# Altium schematic symbol library Resistor.SchLib: 37 symbols
Pins are listed as number, name and electrical type; pins without a type are passive.

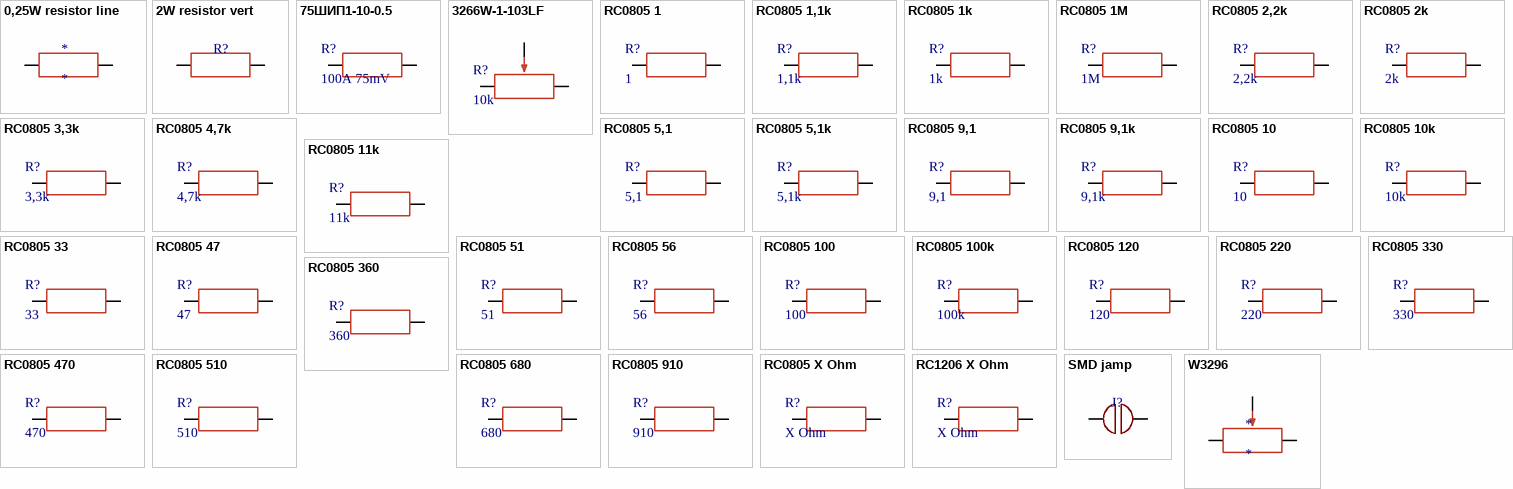
[diagram p0: symbols 0,25W resistor line to W3296]

## 0,25W resistor line
designator *
footprint 0,25 resistor line
pins: 1, 2

## 2W resistor vert
designator R?
footprint 2W resistor vert
pins: 1, 2

## 75ШИП1-10-0.5
designator R?, comment 100A 75mV
Value: 100A 75mV
footprint SHUNT 80
pins: 1, 2

## 3266W-1-103LF
designator R?, comment 10k
Value: 10k
footprint 3266W (Variable resistor)
pins: 1, 2, 3

## RC0805 1
designator R?, comment 1
Value: 1
footprint RC0805_3D
pins: 1, 2

## RC0805 1,1k
designator R?, comment 1,1k
Value: 1,1k
footprint RC0805_3D
pins: 1, 2

## RC0805 1k
designator R?, comment 1k
Value: 1k
footprint RC0805_3D
pins: 1, 2

## RC0805 1M
designator R?, comment 1M
Value: 1M
footprint RC0805_3D
pins: 1, 2

## RC0805 2,2k
designator R?, comment 2,2k
Value: 2,2k
footprint RC0805_3D
pins: 1, 2

## RC0805 2k
designator R?, comment 2k
Value: 2k
footprint RC0805_3D
pins: 1, 2

## RC0805 3,3k
designator R?, comment 3,3k
Value: 3,3k
footprint RC0805_3D
pins: 1, 2

## RC0805 4,7k
designator R?, comment 4,7k
Value: 4,7k
footprint RC0805_3D
pins: 1, 2

## RC0805 5,1
designator R?, comment 5,1
Value: 5,1
footprint RC0805_3D
pins: 1, 2

## RC0805 5,1k
designator R?, comment 5,1k
Value: 5,1k
footprint RC0805_3D
pins: 1, 2

## RC0805 9,1
designator R?, comment 9,1
Value: 9,1
footprint RC0805_3D
pins: 1, 2

## RC0805 9,1k
designator R?, comment 9,1k
Value: 9,1k
footprint RC0805_3D
pins: 1, 2

## RC0805 10
designator R?, comment 10
Value: 10
footprint RC0805_3D
pins: 1, 2

## RC0805 10k
designator R?, comment 10k
Value: 10k
footprint RC0805_3D
pins: 1, 2

## RC0805 11k
designator R?, comment 11k
Value: 11k
footprint RC0805_3D
pins: 1, 2

## RC0805 33
designator R?, comment 33
Value: 33
footprint RC0805_3D
pins: 1, 2

## RC0805 47
designator R?, comment 47
Value: 47
footprint RC0805_3D
pins: 1, 2

## RC0805 51
designator R?, comment 51
Value: 51
footprint RC0805_3D
pins: 1, 2

## RC0805 56
designator R?, comment 56
Value: 56
footprint RC0805_3D
pins: 1, 2

## RC0805 100
designator R?, comment 100
Value: 100
footprint RC0805_3D
pins: 1, 2

## RC0805 100k
designator R?, comment 100k
Value: 100k
footprint RC0805_3D
pins: 1, 2

## RC0805 120
designator R?, comment 120
Value: 120
footprint RC0805_3D
pins: 1, 2

## RC0805 220
designator R?, comment 220
Value: 220
footprint RC0805_3D
pins: 1, 2

## RC0805 330
designator R?, comment 330
Value: 330
footprint RC0805_3D
pins: 1, 2

## RC0805 360
designator R?, comment 360
Value: 360
footprint RC0805_3D
pins: 1, 2

## RC0805 470
designator R?, comment 470
Value: 470
footprint RC0805_3D
pins: 1, 2

## RC0805 510
designator R?, comment 510
Value: 510
footprint RC0805_3D
pins: 1, 2

## RC0805 680
designator R?, comment 680
Value: 680
footprint RC0805_3D
pins: 1, 2

## RC0805 910
designator R?, comment 910
Value: 910
footprint RC0805_3D
pins: 1, 2

## RC0805 X Ohm
designator R?, comment X Ohm
Value: X Ohm
footprint RC0805_3D
pins: 1, 2

## RC1206 X Ohm
designator R?, comment X Ohm
Value: X Ohm
footprint RC1206
pins: 1, 2

## SMD jamp
designator J?  (value not drawn)
footprint jamp
pins: 1, 2

## W3296
designator *
footprint W3296 (Footprint not found)
pins: 1, 2, 3